# Altium footprint library Core51822-related.PcbLib: 6 footprints
Each footprint in its own frame and in the unit in brackets; x right, y up, seen from the top. Pads: shape width x height; smd on the part's side, far side on the other; paste and mask are expansions set on the pad; w line width, h text height; cw(c..) or ccw(c..) is an arc to the next point about the centre after c.
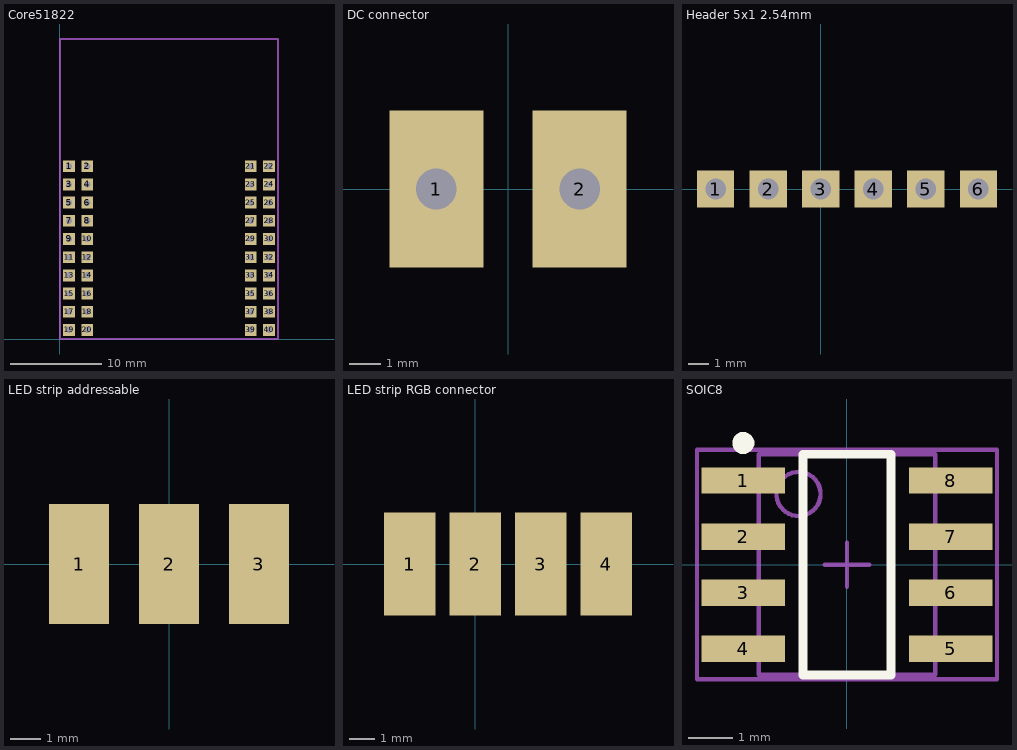
[diagram p0: the footprints below, top view; thin cyan lines are the x and y axes]

## Core51822 [mm]
pads (40):
  rect 1.3x1.3 hole 0.7: 1(1,19) 2(3,19) 3(1,17) 4(3,17) 5(1,15) 6(3,15) 7(1,13) 8(3,13) 9(1,11) 10(3,11) 11(1,9) 12(3,9) 13(1,7) 14(3,7) 15(1,5) 16(3,5) 17(1,3) 18(3,3) 19(1,1) 20(3,1) 21(21,19) 22(23,19) 23(21,17) 24(23,17) 25(21,15) 26(23,15) 27(21,13) 28(23,13) 29(21,11) 30(23,11) 31(21,9) 32(23,9) 33(21,7) 34(23,7) 35(21,5) 36(23,5) 37(21,3) 38(23,3) 39(21,1) 40(23,1)
Mechanical 1:
  lines w0.254: 0,0 24,0 24,33 0,33 0,0

## DC connector [mm]
pads (2):
  rect 3x5 hole 1.3: 1(-2.286,0) 2(2.286,0)

## Header 5x1 2.54mm [mm]
pads (6):
  rect 1.8x1.8 hole 1: 1(-5.08,0) 2(-2.54,0) 3(0,0) 4(2.54,0) 5(5.08,0) 6(7.62,0)

## LED strip addressable [mm]
pads (3):
  rect 2x4 all layers, no hole: 1(-3,0) 2(0,0) 3(3,0)

## LED strip RGB connector [mm]
pads (4):
  rect 2x4 all layers, no hole: 1(-2.54,0) 2(0,0) 3(2.54,0) 4(5.08,0)

## SOIC8 [mm] "SOIC, 8-Leads, Body 4.9x3.9mm, Pitch 1.27mm, IPC High Density"
height 1.75
pads (8):
  rect 1.9x0.6 smd: 1(-2.35,1.905) 2(-2.35,0.635) 3(-2.35,-0.635) 4(-2.35,-1.905) 5(2.35,-1.905) 6(2.35,-0.635) 7(2.35,0.635) 8(2.35,1.905)
Top Overlay:
  circle w0.25: c-2.35,2.755 r0.125
  lines w0.2: -1,-2.5 -1,2.5 1,2.5 1,-2.5 -1,-2.5
Mechanical 13:
  circle w0.1: c-1.1,1.6 r0.5
  lines w0.1: -2,-2.5 -2,2.5 2,2.5 2,-2.5 -2,-2.5
Mechanical 15:
  lines w0.1: -0.5,0 0.5,0 ; 0,-0.5 0,0.5 ; -3.4,-2.6 -3.4,2.6 3.4,2.6 3.4,-2.6 -3.4,-2.6
3D body: height 1.75, standoff 0, extent -3,-2.45 3,2.45